# Altium schematic symbol library PI3USB10LP-AZME.SchLib: 2 symbols
Pins are listed as number, name and electrical type; pins without a type are passive.

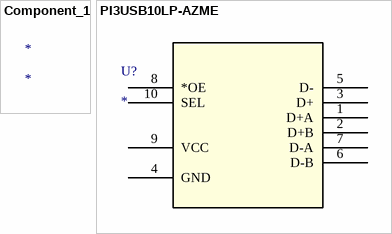
[diagram p0: symbols Component_1 to PI3USB10LP-AZME]

## Component_1
designator *

## PI3USB10LP-AZME
designator U?
No Description Available; Mfr_Name: Pericom; RefDes: RefDes; Type: Type
footprint ZM10_PER
pins: 1 D+A, 2 D+B, 3 D+, 4 GND (power), 5 D-, 6 D-B, 7 D-A, 8 *OE, 9 VCC (power), 10 SEL